# EAGLE library part WL1835MOD (library BeagleBone_Blue_R3)
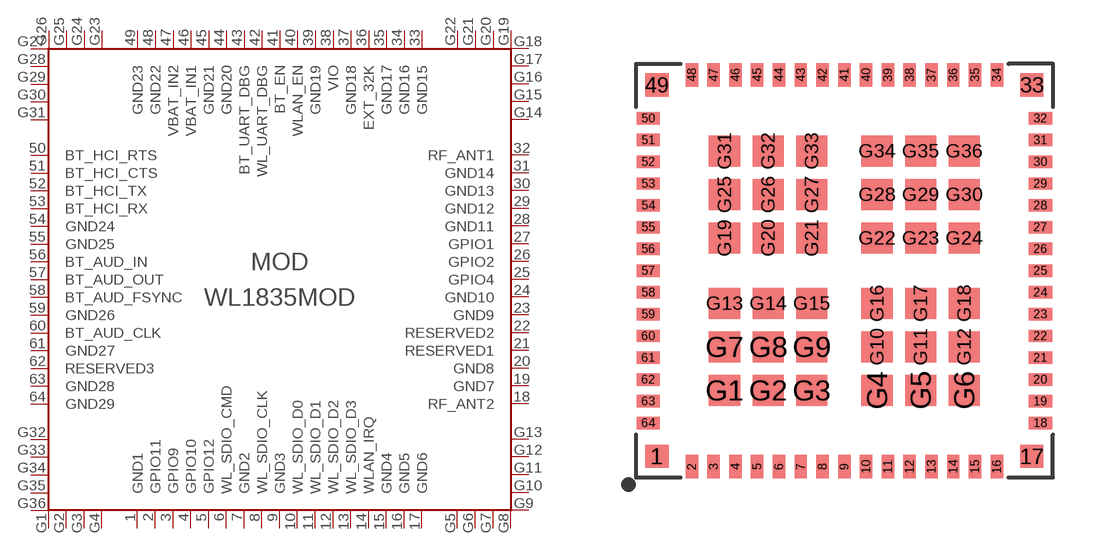
[diagram p9: symbol with the pads of MOC-100(TI); footprint MOC-100(TI)]

Designator prefix MOD

## WL1835MOD  [MOC-100(TI)]
1  GND1
2  GPIO11
3  GPIO9
4  GPIO10
5  GPIO12
6  WL_SDIO_CMD
7  GND2
8  WL_SDIO_CLK
9  GND3
10  WL_SDIO_D0
11  WL_SDIO_D1
12  WL_SDIO_D2
13  WL_SDIO_D3
14  WLAN_IRQ
15  GND4
16  GND5
17  GND6
18  RF_ANT2
19  GND7
20  GND8
21  RESERVED1
22  RESERVED2
23  GND9
24  GND10
25  GPIO4
26  GPIO2
27  GPIO1
28  GND11
29  GND12
30  GND13
31  GND14
32  RF_ANT1
33  GND15
34  GND16
35  GND17
36  EXT_32K
37  GND18
38  VIO
39  GND19
40  WLAN_EN
41  BT_EN
42  WL_UART_DBG
43  BT_UART_DBG
44  GND20
45  GND21
46  VBAT_IN1
47  VBAT_IN2
48  GND22
49  GND23
50  BT_HCI_RTS
51  BT_HCI_CTS
52  BT_HCI_TX
53  BT_HCI_RX
54  GND24
55  GND25
56  BT_AUD_IN
57  BT_AUD_OUT
58  BT_AUD_FSYNC
59  GND26
60  BT_AUD_CLK
61  GND27
62  RESERVED3
63  GND28
64  GND29
G1  G1
G2  G2
G3  G3
G4  G4
G5  G5
G6  G6
G7  G7
G8  G8
G9  G9
G10  G10
G11  G11
G12  G12
G13  G13
G14  G14
G15  G15
G16  G16
G17  G17
G18  G18
G19  G19
G20  G20
G21  G21
G22  G22
G23  G23
G24  G24
G25  G25
G26  G26
G27  G27
G28  G28
G29  G29
G30  G30
G31  G31
G32  G32
G33  G33
G34  G34
G35  G35
G36  G36

## Footprint MOC-100(TI) (pad centres in mm)
smd 0.75 x 0.75: 1 -6.025,-5.975; 17 6.025,-5.975; 33 6.025,5.975; 49 -6.025,5.975
smd 0.4 x 0.75: 2 -4.9,-6.3; 3 -4.2,-6.3; 4 -3.5,-6.3; 5 -2.8,-6.3; 6 -2.1,-6.3; 7 -1.4,-6.3; 8 -0.7,-6.3; 9 0,-6.3; 10 0.7,-6.3; 11 1.4,-6.3; 12 2.1,-6.3; 13 2.8,-6.3; 14 3.5,-6.3; 15 4.2,-6.3; 16 4.9,-6.3; 34 4.9,6.3; 35 4.2,6.3; 36 3.5,6.3; 37 2.8,6.3; 38 2.1,6.3; 39 1.4,6.3; 40 0.7,6.3; 41 0,6.3; 42 -0.7,6.3; 43 -1.4,6.3; 44 -2.1,6.3; 45 -2.8,6.3; 46 -3.5,6.3; 47 -4.2,6.3; 48 -4.9,6.3
smd 0.75 x 0.4: 18 6.3,-4.9; 19 6.3,-4.2; 20 6.3,-3.5; 21 6.3,-2.8; 22 6.3,-2.1; 23 6.3,-1.4; 24 6.3,-0.7; 25 6.3,0; 26 6.3,0.7; 27 6.3,1.4; 28 6.3,2.1; 29 6.3,2.8; 30 6.3,3.5; 31 6.3,4.2; 32 6.3,4.9; 50 -6.3,4.9; 51 -6.3,4.2; 52 -6.3,3.5; 53 -6.3,2.8; 54 -6.3,2.1; 55 -6.3,1.4; 56 -6.3,0.7; 57 -6.3,0; 58 -6.3,-0.7; 59 -6.3,-1.4; 60 -6.3,-2.1; 61 -6.3,-2.8; 62 -6.3,-3.5; 63 -6.3,-4.2; 64 -6.3,-4.9
smd 1 x 1: G1 -3.85,-3.85; G2 -2.45,-3.85; G3 -1.05,-3.85; G4 1.05,-3.85; G5 2.45,-3.85; G6 3.85,-3.85; G7 -3.85,-2.45; G8 -2.45,-2.45; G9 -1.05,-2.45; G10 1.05,-2.45; G11 2.45,-2.45; G12 3.85,-2.45; G13 -3.85,-1.05; G14 -2.45,-1.05; G15 -1.05,-1.05; G16 1.05,-1.05; G17 2.45,-1.05; G18 3.85,-1.05; G19 -3.85,1.05; G20 -2.45,1.05; G21 -1.05,1.05; G22 1.05,1.05; G23 2.45,1.05; G24 3.85,1.05; G25 -3.85,2.45; G26 -2.45,2.45; G27 -1.05,2.45; G28 1.05,2.45; G29 2.45,2.45; G30 3.85,2.45; G31 -3.85,3.85; G32 -2.45,3.85; G33 -1.05,3.85; G34 1.05,3.85; G35 2.45,3.85; G36 3.85,3.85